# Altium schematic symbol library DIODE_NUP2105L.SchLib: 1 symbol
Pins are listed as number, name and electrical type; pins without a type are passive.

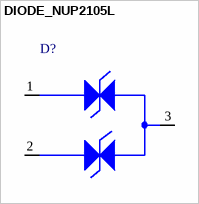
[diagram p0: symbol DIODE_NUP2105L]

## DIODE_NUP2105L
designator D?
DIODE DUAL LINE CAN BUS PROTECTOR 27V 350W SOT-23
pins: 1 CATHODE1, 2 CATHODE2, 3 ANODES